# EAGLE library part BL600 (library logic-supply)
Laird BL600 BLE module
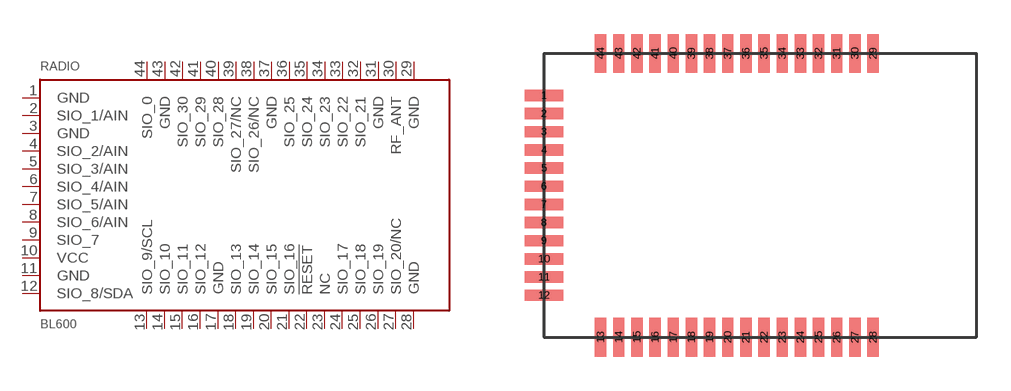
[diagram p56: symbol with the pads of BL600; footprint BL600]

Designator prefix RADIO

## BL600  [BL600]
1  GND  pwr
2  SIO_1/AIN
3  GND  pwr
4  SIO_2/AIN
5  SIO_3/AIN
6  SIO_4/AIN
7  SIO_5/AIN
8  SIO_6/AIN
9  SIO_7
10  VCC  pwr
11  GND  pwr
12  SIO_8/SDA
13  SIO_9/SCL
14  SIO_10
15  SIO_11
16  SIO_12
17  GND  pwr
18  SIO_13
19  SIO_14
20  SIO_15
21  SIO_16
22  !RESET  in
23  NC  nc
24  SIO_17
25  SIO_18
26  SIO_19
27  SIO_20/NC
28  GND  pwr
29  GND  pwr
30  RF_ANT  out
31  GND  pwr
32  SIO_21
33  SIO_22
34  SIO_23
35  SIO_24
36  SIO_25
37  GND  pwr
38  SIO_26/NC
39  SIO_27/NC
40  SIO_28
41  SIO_29
42  SIO_30
43  GND  pwr
44  SIO_0

## Footprint BL600 (pad centres in mm)
smd 1.7 x 0.5: 1 0,-1.85; 2 0,-2.65; 3 0,-3.45; 4 0,-4.25; 5 0,-5.05; 6 0,-5.85; 7 0,-6.65; 8 0,-7.45; 9 0,-8.25; 10 0,-9.05; 11 0,-9.85; 12 0,-10.65
smd 0.5 x 1.7: 13 2.5,-12.5; 14 3.3,-12.5; 15 4.1,-12.5; 16 4.9,-12.5; 17 5.7,-12.5; 18 6.5,-12.5; 19 7.3,-12.5; 20 8.1,-12.5; 21 8.9,-12.5; 22 9.7,-12.5; 23 10.5,-12.5; 24 11.3,-12.5; 25 12.1,-12.5; 26 12.9,-12.5; 27 13.7,-12.5; 28 14.5,-12.5; 29 14.5,0; 30 13.7,0; 31 12.9,0; 32 12.1,0; 33 11.3,0; 34 10.5,0; 35 9.7,0; 36 8.9,0; 37 8.1,0; 38 7.3,0; 39 6.5,0; 40 5.7,0; 41 4.9,0; 42 4.1,0; 43 3.3,0; 44 2.5,0